# Altium footprint library HTSSOP.PcbLib: 6 footprints
Each footprint in its own frame and in the unit in brackets; x right, y up, seen from the top. Pads: shape width x height; smd on the part's side, far side on the other; paste and mask are expansions set on the pad; w line width, h text height; cw(c..) or ccw(c..) is an arc to the next point about the centre after c.
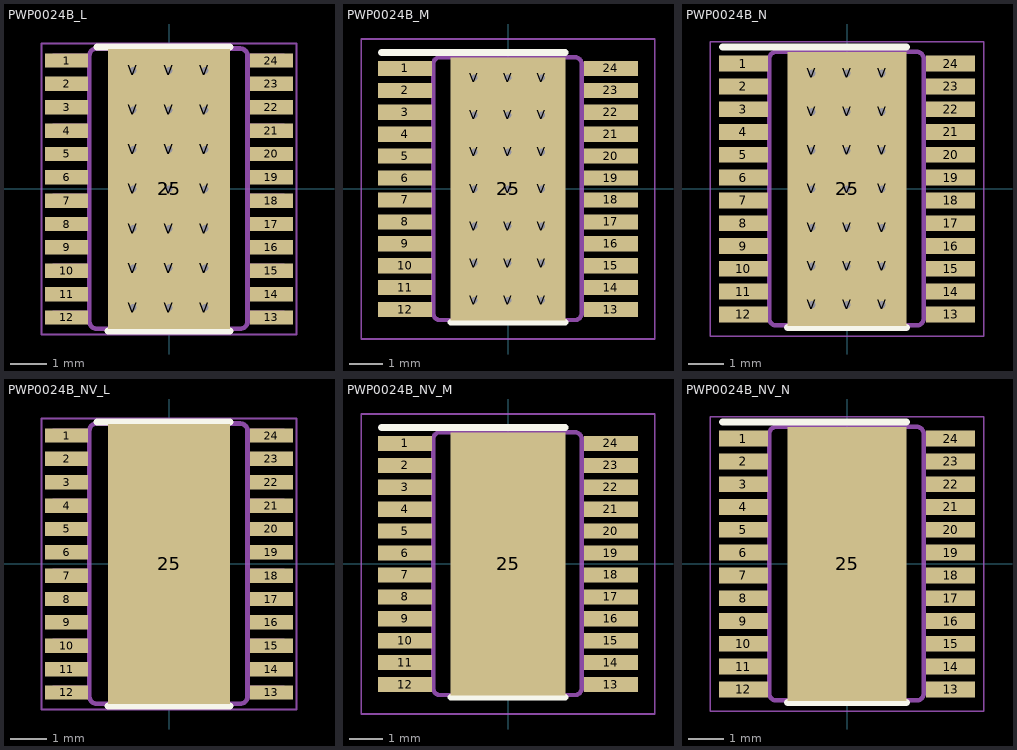
[diagram p0: the footprints below, top view; thin cyan lines are the x and y axes]

## PWP0024B_L [mm]
pads (46):
  rect 1.2x0.4 smd paste+0 mask+0.051: 1(-2.85,3.575) 2(-2.85,2.925) 3(-2.85,2.275) 4(-2.85,1.625) 5(-2.85,0.975) 6(-2.85,0.325) 7(-2.85,-0.325) 8(-2.85,-0.975) 9(-2.85,-1.625) 10(-2.85,-2.275) 11(-2.85,-2.925) 12(-2.85,-3.575) 13(2.85,-3.575) 14(2.85,-2.925) 15(2.85,-2.275) 16(2.85,-1.625) 17(2.85,-0.975) 18(2.85,-0.325) 19(2.85,0.325) 20(2.85,0.975) 21(2.85,1.625) 22(2.85,2.275) 23(2.85,2.925) 24(2.85,3.575)
  rect 3.4x7.8 smd paste-3.887 mask-3.886: 25(0,0)
  round 0.5 hole 0.203 mask+0.051: V(-1,-3.3) V(-1,3.3) V(0,-3.3) V(0,-2.2) V(0,-1.1) V(0,0) V(0,1.1) V(0,2.2) V(0,3.3) V(1,-3.3) V(1,3.3)
  round 0.5 hole 0.203 mask-0.102: V(-1,-2.2) V(-1,-1.1) V(-1,0) V(-1,1.1) V(-1,2.2) V(1,-2.2) V(1,-1.1) V(1,0) V(1,1.1) V(1,2.2)
Top Overlay:
  lines w0.2: -2,3.95 1.7,3.95 ; -1.7,-3.95 1.7,-3.95
Top Paste:
  region: -1.199,-2.541 -1.2,-2.532 -1.2,2.532 -1.199,2.541 -1.196,2.55 -1.192,2.559 -1.186,2.566 -1.179,2.572 -1.17,2.576 -1.161,2.579 -1.152,2.58 1.152,2.58 1.161,2.579 1.17,2.576 1.179,2.572 1.186,2.566 1.192,2.559 1.196,2.55 1.199,2.541 1.2,2.532 1.2,-2.532 1.199,-2.541 1.196,-2.55 1.192,-2.559 1.186,-2.566 1.179,-2.572 1.17,-2.576 1.161,-2.579 1.152,-2.58 -1.152,-2.58 -1.161,-2.579 -1.17,-2.576 -1.179,-2.572 -1.186,-2.566 -1.192,-2.559 -1.196,-2.55
Top Solder:
  region: -1.199,-2.541 -1.2,-2.532 -1.2,2.532 -1.199,2.541 -1.196,2.55 -1.192,2.559 -1.186,2.566 -1.179,2.572 -1.17,2.576 -1.161,2.579 -1.152,2.58 1.152,2.58 1.161,2.579 1.17,2.576 1.179,2.572 1.186,2.566 1.192,2.559 1.196,2.55 1.199,2.541 1.2,2.532 1.2,-2.532 1.199,-2.541 1.196,-2.55 1.192,-2.559 1.186,-2.566 1.179,-2.572 1.17,-2.576 1.161,-2.579 1.152,-2.58 -1.152,-2.58 -1.161,-2.579 -1.17,-2.576 -1.179,-2.572 -1.186,-2.566 -1.192,-2.559 -1.196,-2.55
Mechanical 13:
  drawing of 298 lines, arcs and shapes, not listed
Mechanical 15:
  lines w0.05: -3.55,-4.05 -3.55,4.05 3.55,4.05 3.55,-4.05 -3.55,-4.05
  lines w0.1: -0.5,0 0.5,0 ; 0,-0.5 0,0.5
3D body: height 0.25, standoff 0, extent 0,0 0.254,0.254
3D body "PWP0024B.stp": height 1, standoff 0, extent -3.21,-3.9 3.211,3.9

## PWP0024B_M [mm]
pads (46):
  rect 1.6x0.45 smd paste+0 mask+0.051: 1(-3.05,3.575) 2(-3.05,2.925) 3(-3.05,2.275) 4(-3.05,1.625) 5(-3.05,0.975) 6(-3.05,0.325) 7(-3.05,-0.325) 8(-3.05,-0.975) 9(-3.05,-1.625) 10(-3.05,-2.275) 11(-3.05,-2.925) 12(-3.05,-3.575) 13(3.05,-3.575) 14(3.05,-2.925) 15(3.05,-2.275) 16(3.05,-1.625) 17(3.05,-0.975) 18(3.05,-0.325) 19(3.05,0.325) 20(3.05,0.975) 21(3.05,1.625) 22(3.05,2.275) 23(3.05,2.925) 24(3.05,3.575)
  rect 3.4x7.8 smd paste-3.887 mask-3.886: 25(0,0)
  round 0.5 hole 0.203 mask+0.051: V(-1,-3.3) V(-1,3.3) V(0,-3.3) V(0,-2.2) V(0,-1.1) V(0,0) V(0,1.1) V(0,2.2) V(0,3.3) V(1,-3.3) V(1,3.3)
  round 0.5 hole 0.203 mask-0.102: V(-1,-2.2) V(-1,-1.1) V(-1,0) V(-1,1.1) V(-1,2.2) V(1,-2.2) V(1,-1.1) V(1,0) V(1,1.1) V(1,2.2)
Top Overlay:
  lines w0.2: -3.75,4.05 1.7,4.05 ; -1.7,-3.95 1.7,-3.95
Top Paste:
  region: -1.199,-2.541 -1.2,-2.532 -1.2,2.532 -1.199,2.541 -1.196,2.55 -1.192,2.559 -1.186,2.566 -1.179,2.572 -1.17,2.576 -1.161,2.579 -1.152,2.58 1.152,2.58 1.161,2.579 1.17,2.576 1.179,2.572 1.186,2.566 1.192,2.559 1.196,2.55 1.199,2.541 1.2,2.532 1.2,-2.532 1.199,-2.541 1.196,-2.55 1.192,-2.559 1.186,-2.566 1.179,-2.572 1.17,-2.576 1.161,-2.579 1.152,-2.58 -1.152,-2.58 -1.161,-2.579 -1.17,-2.576 -1.179,-2.572 -1.186,-2.566 -1.192,-2.559 -1.196,-2.55
Top Solder:
  region: -1.199,-2.541 -1.2,-2.532 -1.2,2.532 -1.199,2.541 -1.196,2.55 -1.192,2.559 -1.186,2.566 -1.179,2.572 -1.17,2.576 -1.161,2.579 -1.152,2.58 1.152,2.58 1.161,2.579 1.17,2.576 1.179,2.572 1.186,2.566 1.192,2.559 1.196,2.55 1.199,2.541 1.2,2.532 1.2,-2.532 1.199,-2.541 1.196,-2.55 1.192,-2.559 1.186,-2.566 1.179,-2.572 1.17,-2.576 1.161,-2.579 1.152,-2.58 -1.152,-2.58 -1.161,-2.579 -1.17,-2.576 -1.179,-2.572 -1.186,-2.566 -1.192,-2.559 -1.196,-2.55
Mechanical 13:
  drawing of 298 lines, arcs and shapes, not listed
Mechanical 15:
  lines w0.05: -4.35,-4.45 -4.35,4.45 4.35,4.45 4.35,-4.45 -4.35,-4.45
  lines w0.1: -0.5,0 0.5,0 ; 0,-0.5 0,0.5
3D body: height 0.25, standoff 0, extent 0,0 0.254,0.254
3D body "PWP0024B.stp": height 1, standoff 0, extent -3.21,-3.9 3.211,3.9

## PWP0024B_N [mm]
pads (46):
  rect 1.4x0.45 smd paste+0 mask+0.051: 1(-2.95,3.575) 2(-2.95,2.925) 3(-2.95,2.275) 4(-2.95,1.625) 5(-2.95,0.975) 6(-2.95,0.325) 7(-2.95,-0.325) 8(-2.95,-0.975) 9(-2.95,-1.625) 10(-2.95,-2.275) 11(-2.95,-2.925) 12(-2.95,-3.575) 13(2.95,-3.575) 14(2.95,-2.925) 15(2.95,-2.275) 16(2.95,-1.625) 17(2.95,-0.975) 18(2.95,-0.325) 19(2.95,0.325) 20(2.95,0.975) 21(2.95,1.625) 22(2.95,2.275) 23(2.95,2.925) 24(2.95,3.575)
  rect 3.4x7.8 smd paste-3.887 mask-3.886: 25(0,0)
  round 0.5 hole 0.203 mask+0.051: V(-1,-3.3) V(-1,3.3) V(0,-3.3) V(0,-2.2) V(0,-1.1) V(0,0) V(0,1.1) V(0,2.2) V(0,3.3) V(1,-3.3) V(1,3.3)
  round 0.5 hole 0.203 mask-0.102: V(-1,-2.2) V(-1,-1.1) V(-1,0) V(-1,1.1) V(-1,2.2) V(1,-2.2) V(1,-1.1) V(1,0) V(1,1.1) V(1,2.2)
Top Overlay:
  lines w0.2: -3.55,4.05 1.7,4.05 ; -1.7,-3.95 1.7,-3.95
Top Paste:
  region: -1.199,-2.541 -1.2,-2.532 -1.2,2.532 -1.199,2.541 -1.196,2.55 -1.192,2.559 -1.186,2.566 -1.179,2.572 -1.17,2.576 -1.161,2.579 -1.152,2.58 1.152,2.58 1.161,2.579 1.17,2.576 1.179,2.572 1.186,2.566 1.192,2.559 1.196,2.55 1.199,2.541 1.2,2.532 1.2,-2.532 1.199,-2.541 1.196,-2.55 1.192,-2.559 1.186,-2.566 1.179,-2.572 1.17,-2.576 1.161,-2.579 1.152,-2.58 -1.152,-2.58 -1.161,-2.579 -1.17,-2.576 -1.179,-2.572 -1.186,-2.566 -1.192,-2.559 -1.196,-2.55
Top Solder:
  region: -1.199,-2.541 -1.2,-2.532 -1.2,2.532 -1.199,2.541 -1.196,2.55 -1.192,2.559 -1.186,2.566 -1.179,2.572 -1.17,2.576 -1.161,2.579 -1.152,2.58 1.152,2.58 1.161,2.579 1.17,2.576 1.179,2.572 1.186,2.566 1.192,2.559 1.196,2.55 1.199,2.541 1.2,2.532 1.2,-2.532 1.199,-2.541 1.196,-2.55 1.192,-2.559 1.186,-2.566 1.179,-2.572 1.17,-2.576 1.161,-2.579 1.152,-2.58 -1.152,-2.58 -1.161,-2.579 -1.17,-2.576 -1.179,-2.572 -1.186,-2.566 -1.192,-2.559 -1.196,-2.55
Mechanical 13:
  drawing of 298 lines, arcs and shapes, not listed
Mechanical 15:
  lines w0.05: -3.9,-4.2 -3.9,4.2 3.9,4.2 3.9,-4.2 -3.9,-4.2
  lines w0.1: -0.5,0 0.5,0 ; 0,-0.5 0,0.5
3D body: height 0.25, standoff 0, extent 0,0 0.254,0.254
3D body "PWP0024B.stp": height 1, standoff 0, extent -3.21,-3.9 3.211,3.9

## PWP0024B_NV_L [mm]
pads (25):
  rect 1.2x0.4 smd paste+0 mask+0.051: 1(-2.85,3.575) 2(-2.85,2.925) 3(-2.85,2.275) 4(-2.85,1.625) 5(-2.85,0.975) 6(-2.85,0.325) 7(-2.85,-0.325) 8(-2.85,-0.975) 9(-2.85,-1.625) 10(-2.85,-2.275) 11(-2.85,-2.925) 12(-2.85,-3.575) 13(2.85,-3.575) 14(2.85,-2.925) 15(2.85,-2.275) 16(2.85,-1.625) 17(2.85,-0.975) 18(2.85,-0.325) 19(2.85,0.325) 20(2.85,0.975) 21(2.85,1.625) 22(2.85,2.275) 23(2.85,2.925) 24(2.85,3.575)
  rect 3.4x7.8 smd paste-3.887 mask-3.886: 25(0,0)
Top Overlay:
  lines w0.2: -2,3.95 1.7,3.95 ; -1.7,-3.95 1.7,-3.95
Top Paste:
  region: -1.199,-2.541 -1.2,-2.532 -1.2,2.532 -1.199,2.541 -1.196,2.55 -1.192,2.559 -1.186,2.566 -1.179,2.572 -1.17,2.576 -1.161,2.579 -1.152,2.58 1.152,2.58 1.161,2.579 1.17,2.576 1.179,2.572 1.186,2.566 1.192,2.559 1.196,2.55 1.199,2.541 1.2,2.532 1.2,-2.532 1.199,-2.541 1.196,-2.55 1.192,-2.559 1.186,-2.566 1.179,-2.572 1.17,-2.576 1.161,-2.579 1.152,-2.58 -1.152,-2.58 -1.161,-2.579 -1.17,-2.576 -1.179,-2.572 -1.186,-2.566 -1.192,-2.559 -1.196,-2.55
Top Solder:
  region: -1.199,-2.541 -1.2,-2.532 -1.2,2.532 -1.199,2.541 -1.196,2.55 -1.192,2.559 -1.186,2.566 -1.179,2.572 -1.17,2.576 -1.161,2.579 -1.152,2.58 1.152,2.58 1.161,2.579 1.17,2.576 1.179,2.572 1.186,2.566 1.192,2.559 1.196,2.55 1.199,2.541 1.2,2.532 1.2,-2.532 1.199,-2.541 1.196,-2.55 1.192,-2.559 1.186,-2.566 1.179,-2.572 1.17,-2.576 1.161,-2.579 1.152,-2.58 -1.152,-2.58 -1.161,-2.579 -1.17,-2.576 -1.179,-2.572 -1.186,-2.566 -1.192,-2.559 -1.196,-2.55
Mechanical 13:
  drawing of 298 lines, arcs and shapes, not listed
Mechanical 15:
  lines w0.05: -3.55,-4.05 3.55,-4.05 3.55,4.05 -3.55,4.05 -3.55,-4.05
  lines w0.1: -0.5,0 0.5,0 ; 0,-0.5 0,0.5
3D body: height 0.25, standoff 0, extent 0,0 0.254,0.254
3D body "PWP0024B.stp": height 1, standoff 0, extent -3.21,-3.9 3.211,3.9

## PWP0024B_NV_M [mm]
pads (25):
  rect 1.6x0.45 smd paste+0 mask+0.051: 1(-3.05,3.575) 2(-3.05,2.925) 3(-3.05,2.275) 4(-3.05,1.625) 5(-3.05,0.975) 6(-3.05,0.325) 7(-3.05,-0.325) 8(-3.05,-0.975) 9(-3.05,-1.625) 10(-3.05,-2.275) 11(-3.05,-2.925) 12(-3.05,-3.575) 13(3.05,-3.575) 14(3.05,-2.925) 15(3.05,-2.275) 16(3.05,-1.625) 17(3.05,-0.975) 18(3.05,-0.325) 19(3.05,0.325) 20(3.05,0.975) 21(3.05,1.625) 22(3.05,2.275) 23(3.05,2.925) 24(3.05,3.575)
  rect 3.4x7.8 smd paste-3.887 mask-3.886: 25(0,0)
Top Overlay:
  lines w0.2: -3.75,4.05 1.7,4.05 ; -1.7,-3.95 1.7,-3.95
Top Paste:
  region: -1.199,-2.541 -1.2,-2.532 -1.2,2.532 -1.199,2.541 -1.196,2.55 -1.192,2.559 -1.186,2.566 -1.179,2.572 -1.17,2.576 -1.161,2.579 -1.152,2.58 1.152,2.58 1.161,2.579 1.17,2.576 1.179,2.572 1.186,2.566 1.192,2.559 1.196,2.55 1.199,2.541 1.2,2.532 1.2,-2.532 1.199,-2.541 1.196,-2.55 1.192,-2.559 1.186,-2.566 1.179,-2.572 1.17,-2.576 1.161,-2.579 1.152,-2.58 -1.152,-2.58 -1.161,-2.579 -1.17,-2.576 -1.179,-2.572 -1.186,-2.566 -1.192,-2.559 -1.196,-2.55
Top Solder:
  region: -1.199,-2.541 -1.2,-2.532 -1.2,2.532 -1.199,2.541 -1.196,2.55 -1.192,2.559 -1.186,2.566 -1.179,2.572 -1.17,2.576 -1.161,2.579 -1.152,2.58 1.152,2.58 1.161,2.579 1.17,2.576 1.179,2.572 1.186,2.566 1.192,2.559 1.196,2.55 1.199,2.541 1.2,2.532 1.2,-2.532 1.199,-2.541 1.196,-2.55 1.192,-2.559 1.186,-2.566 1.179,-2.572 1.17,-2.576 1.161,-2.579 1.152,-2.58 -1.152,-2.58 -1.161,-2.579 -1.17,-2.576 -1.179,-2.572 -1.186,-2.566 -1.192,-2.559 -1.196,-2.55
Mechanical 13:
  drawing of 298 lines, arcs and shapes, not listed
Mechanical 15:
  lines w0.05: -4.35,-4.45 4.35,-4.45 4.35,4.45 -4.35,4.45 -4.35,-4.45
  lines w0.1: -0.5,0 0.5,0 ; 0,-0.5 0,0.5
3D body: height 0.25, standoff 0, extent 0,0 0.254,0.254
3D body "PWP0024B.stp": height 1, standoff 0, extent -3.21,-3.9 3.211,3.9

## PWP0024B_NV_N [mm]
pads (25):
  rect 1.4x0.45 smd paste+0 mask+0.051: 1(-2.95,3.575) 2(-2.95,2.925) 3(-2.95,2.275) 4(-2.95,1.625) 5(-2.95,0.975) 6(-2.95,0.325) 7(-2.95,-0.325) 8(-2.95,-0.975) 9(-2.95,-1.625) 10(-2.95,-2.275) 11(-2.95,-2.925) 12(-2.95,-3.575) 13(2.95,-3.575) 14(2.95,-2.925) 15(2.95,-2.275) 16(2.95,-1.625) 17(2.95,-0.975) 18(2.95,-0.325) 19(2.95,0.325) 20(2.95,0.975) 21(2.95,1.625) 22(2.95,2.275) 23(2.95,2.925) 24(2.95,3.575)
  rect 3.4x7.8 smd paste-3.887 mask-3.886: 25(0,0)
Top Overlay:
  lines w0.2: -3.55,4.05 1.7,4.05 ; -1.7,-3.95 1.7,-3.95
Top Paste:
  region: -1.199,-2.541 -1.2,-2.532 -1.2,2.532 -1.199,2.541 -1.196,2.55 -1.192,2.559 -1.186,2.566 -1.179,2.572 -1.17,2.576 -1.161,2.579 -1.152,2.58 1.152,2.58 1.161,2.579 1.17,2.576 1.179,2.572 1.186,2.566 1.192,2.559 1.196,2.55 1.199,2.541 1.2,2.532 1.2,-2.532 1.199,-2.541 1.196,-2.55 1.192,-2.559 1.186,-2.566 1.179,-2.572 1.17,-2.576 1.161,-2.579 1.152,-2.58 -1.152,-2.58 -1.161,-2.579 -1.17,-2.576 -1.179,-2.572 -1.186,-2.566 -1.192,-2.559 -1.196,-2.55
Top Solder:
  region: -1.199,-2.541 -1.2,-2.532 -1.2,2.532 -1.199,2.541 -1.196,2.55 -1.192,2.559 -1.186,2.566 -1.179,2.572 -1.17,2.576 -1.161,2.579 -1.152,2.58 1.152,2.58 1.161,2.579 1.17,2.576 1.179,2.572 1.186,2.566 1.192,2.559 1.196,2.55 1.199,2.541 1.2,2.532 1.2,-2.532 1.199,-2.541 1.196,-2.55 1.192,-2.559 1.186,-2.566 1.179,-2.572 1.17,-2.576 1.161,-2.579 1.152,-2.58 -1.152,-2.58 -1.161,-2.579 -1.17,-2.576 -1.179,-2.572 -1.186,-2.566 -1.192,-2.559 -1.196,-2.55
Mechanical 13:
  drawing of 298 lines, arcs and shapes, not listed
Mechanical 15:
  lines w0.05: -3.9,-4.2 3.9,-4.2 3.9,4.2 -3.9,4.2 -3.9,-4.2
  lines w0.1: -0.5,0 0.5,0 ; 0,-0.5 0,0.5
3D body: height 0.25, standoff 0, extent 0,0 0.254,0.254
3D body "PWP0024B.stp": height 1, standoff 0, extent -3.21,-3.9 3.211,3.9